# Altium footprint library 贴片.PcbLib: 31 footprints (part 2 of 2)
Each footprint in its own frame and in the unit in brackets; x right, y up, seen from the top. Pads: shape width x height; smd on the part's side, far side on the other; paste and mask are expansions set on the pad; w line width, h text height; cw(c..) or ccw(c..) is an arc to the next point about the centre after c.
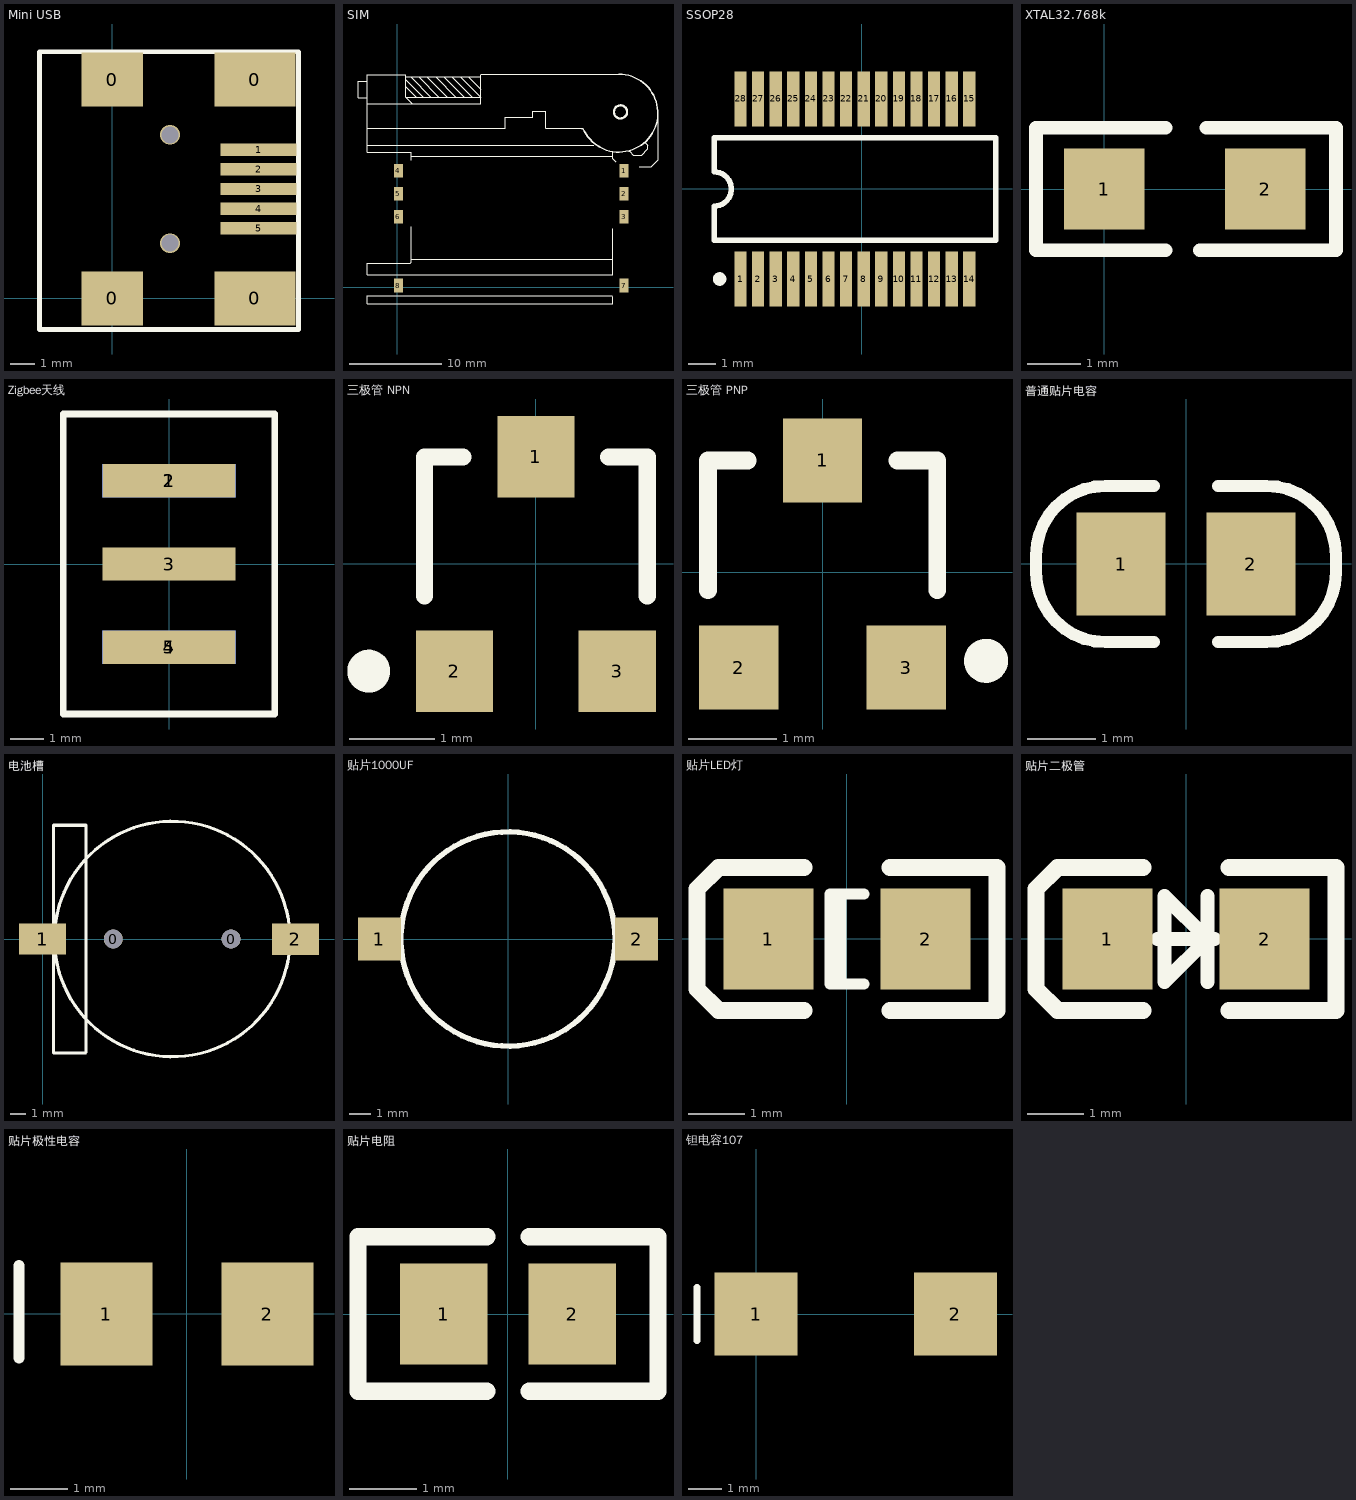
[diagram p1: the footprints below, top view; thin cyan lines are the x and y axes]

## Mini USB [mm]
pads (9):
  rect 2.5x2.2 smd: 0(0,0) 0(0,8.9)
  rect 3.3x2.2 smd: 0(5.8,0) 0(5.8,8.9)
  rect 3.1x0.5 smd: 1(5.95,6.05) 2(5.95,5.25) 3(5.95,4.45) 4(5.95,3.65) 5(5.95,2.85)
via 2.35,2.25 diameter 0.8 hole 0.7
via 2.35,6.65 diameter 0.8 hole 0.7
Top Overlay:
  lines w0.2: -2.963,-1.27 7.578,-1.27 7.578,10.033 -2.963,10.033 -2.963,-1.27

## SIM [mm] "SIM卡"
pads (8):
  rect 1x1.5 smd: 1(24.72,12.668) 2(24.72,10.168) 3(24.72,7.668) 4(0.12,12.668) 5(0.12,10.168) 6(0.12,7.668) 7(24.72,0.168) 8(0.12,0.168)
Top Overlay:
  circle w0.254: c24.326,19.083 r0.717
  lines w0.08: 0.941,21.821 2.05,20.711 ; 0.941,22.608 2.838,20.711 ; 1.456,22.906 3.651,20.711 ; 2.321,22.919 4.529,20.711 ; 3.234,22.906 5.429,20.711 ; 4.176,22.919 6.383,20.711 ; 5.088,22.906 7.283,20.711 ; 5.964,22.919 8.172,20.711 ; 6.876,22.906 9.071,20.711 ; 7.816,22.876 9.12,21.573
  lines w0.12: -3.28,-1.832 -3.28,-0.933 ; -3.28,1.354 -3.28,2.599 ; -3.28,15.477 21.431,15.477 ; 1.465,-0.933 23.411,-0.933 ; 1.492,1.354 23.463,1.354 ; 1.517,3.056 23.463,3.056 ; 1.517,14.232 23.463,14.232 ; 2.751,20.711 2.762,20.711 ; 2.838,20.711 2.863,20.711
  lines w0.13: -3.28,-1.832 23.463,-1.832 23.463,-1.033 ; -3.28,-0.933 1.465,-0.933 ; -3.28,1.354 1.492,1.354 ; -3.28,2.599 1.441,2.599 1.517,2.675 1.517,6.561 ; -3.28,17.28 11.753,17.28 11.753,18.525 14.75,18.525 14.75,19.134 16.173,19.134 16.173,18.575 16.173,17.318 17.262,17.318 20.161,17.318 ; -3.28,19.972 9.12,19.972 9.12,23.117 ; -3.28,20.633 -4.28,20.633 -4.28,22.436 -3.28,22.436 ; 0.923,20.693 1.644,19.972 ; 0.941,22.919 9.018,22.919 ; 1.517,13.826 1.517,14.664 1.492,14.689 1.288,14.689 -1.518,14.689 -3.28,14.689 -3.28,23.15 0.941,23.15 0.941,20.711 9.071,20.711 ; 9.171,23.168 11.588,23.168 24.148,23.168 ; 20.12,17.267 20.212,17.267 ; 23.463,1.354 23.463,6.333 ; 23.463,14.668 23.463,13.968 23.793,13.638 ; 25.241,14.791 25.317,14.791 25.723,14.384 26.638,14.384 27.323,15.07 27.323,15.451 26.993,15.781 ; 26.358,13.114 27.654,13.114 28.416,13.876 28.416,19.007
  lines w0.14: 20.236,17.292 ccw(c24.148,18.953) 24.148,23.203

## SSOP28 [mm] "SP3238"
pads (28):
  rect 0.45x2.05 smd: 1(-4.479,-3.325) 2(-3.829,-3.325) 3(-3.179,-3.325) 4(-2.529,-3.325) 5(-1.879,-3.325) 6(-1.229,-3.325) 7(-0.579,-3.325) 8(0.071,-3.325) 9(0.721,-3.325) 10(1.371,-3.325) 11(2.021,-3.325) 12(2.671,-3.325) 13(3.321,-3.325) 14(3.971,-3.325) 15(3.971,3.325) 16(3.321,3.325) 17(2.671,3.325) 18(2.021,3.325) 19(1.371,3.325) 20(0.721,3.325) 21(0.071,3.325) 22(-0.579,3.325) 23(-1.229,3.325) 24(-1.879,3.325) 25(-2.529,3.325) 26(-3.179,3.325) 27(-3.829,3.325) 28(-4.479,3.325)
Top Overlay:
  circle w0.25: c-5.254,-3.325 r0.125
  lines w0.2: -5.454,-1.9 -5.454,-0.633 ccw(c-5.454,0) -5.454,0.633 -5.454,1.9 4.946,1.9 4.946,-1.9 -5.454,-1.9

## XTAL32.768k [mm]
pads (2):
  rect 1.5x1.5 smd: 1(0,0) 2(3,0)
Top Overlay:
  lines w0.254: 1.143,-1.143 -1.27,-1.143 -1.27,1.143 1.143,1.143 ; 1.778,-1.143 4.318,-1.143 4.318,1.143 1.905,1.143

## Zigbee天线 [mm]
pads (5):
  rect 4x1 smd: 1(0,2.5) 3(0,0) 4(0,-2.5)
  rect 4x1 smd far side: 2(0,2.5) 5(0,-2.5)
Top Overlay:
  lines w0.2: -3.175,-4.5 -3.175,-3.683 -3.175,4.064 -3.175,4.5 3.175,4.5 3.175,-4.5 -3.175,-4.5

## 三极管 NPN [mm]
height 1.1
pads (3):
  rect 0.9x0.95 smd: 1(0,1.25) 2(-0.95,-1.25) 3(0.95,-1.25)
Top Overlay:
  circle w0.25: c-1.95,-1.25 r0.125
  lines w0.2: -1.3,-0.375 -1.3,1.25 -0.85,1.25 ; 0.85,1.25 1.3,1.25 1.3,-0.375

## 三极管 PNP [mm]
pads (3):
  rect 0.9x0.95 smd: 1(0,1.27) 2(-0.95,-1.08) 3(0.95,-1.08)
Top Overlay:
  circle w0.25: c1.855,-1.004 r0.125
  lines w0.2: -1.3,-0.205 -1.3,1.27 -0.85,1.27 ; 0.85,1.27 1.3,1.27 1.3,-0.205

## 普通贴片电容 [mm]
height 1.1
pads (2):
  rect 1.3x1.5 smd: 1(-0.95,0) 2(0.95,0)
Top Overlay:
  lines w0.178: -0.467,-1.143 -1.179,-1.143 cw(c-1.179,-0.127) -2.195,-0.127 -2.195,0.127 cw(c-1.179,0.127) -1.179,1.143 -0.467,1.143 ; 0.467,-1.143 1.179,-1.143 ccw(c1.179,-0.127) 2.195,-0.127 2.195,0.127 ccw(c1.179,0.127) 1.179,1.143 0.467,1.143

## 电池槽 [mm]
height 10
pads (4):
  round 1.2 hole 1.2: 0(4.505,0) 0(12.005,0)
  rect 3x2 smd: 1(0,0) 2(16.104,-0.025)
Top Overlay:
  circle w0.203: c8.255,0 r7.5
  lines w0.203: 0.705,-7.264 2.718,-7.264 2.769,-7.214 2.769,7.239 0.705,7.239 0.705,-7.264

## 贴片1000UF [mm]
pads (2):
  rect 2x2 smd: 1(-6,0) 2(6,0)
Top Overlay:
  circle w0.254: c0,0 r5

## 贴片LED灯 [mm]
height 1.35
pads (2):
  rect 1.6x1.8 smd: 1(-1.4,0) 2(1.4,0)
Top Overlay:
  lines w0.2: -0.11,-0.8 -0.11,0.8 ; 0.3,-0.8 -0.3,-0.8 -0.3,0.8 0.3,0.8
  lines w0.305: -0.765,-1.27 -2.289,-1.27 -2.67,-0.889 -2.67,0.889 -2.289,1.27 -0.765,1.27 ; 0.765,-1.27 2.67,-1.27 2.67,1.27 0.765,1.27

## 贴片二极管 [mm]
height 2.54
pads (2):
  rect 1.6x1.8 smd: 1(-1.4,0) 2(1.4,0)
Top Overlay:
  lines w0.254: -0.508,0 0.508,0 ; 0.381,-0.762 0.381,0.762 ; -0.381,-0.762 0.381,0 -0.381,0.762 -0.381,-0.762
  lines w0.305: -0.765,-1.27 -2.289,-1.27 -2.67,-0.889 -2.67,0.889 -2.289,1.27 -0.765,1.27 ; 0.765,-1.27 2.67,-1.27 2.67,1.27 0.765,1.27

## 贴片极性电容 [mm]
height 1.35
pads (2):
  rect 1.6x1.8 smd: 1(-1.4,0) 2(1.4,0)
Top Overlay:
  lines w0.2: -2.921,-0.762 -2.921,0.838

## 贴片电阻 [mm]
height 0.65
pads (2):
  rect 1.3x1.5 smd: 1(-0.95,0) 2(0.95,0)
Top Overlay:
  lines w0.254: -0.315,-1.143 -2.22,-1.143 -2.22,1.143 -0.315,1.143 ; 0.315,-1.143 2.22,-1.143 2.22,1.143 0.315,1.143

## 钽电容107 [mm] "贴片钽电容"
pads (2):
  rect 2.5x2.5 smd: 1(0,0) 2(6,0)
Top Overlay:
  lines w0.2: -1.778,-0.8 -1.778,0.8